# EAGLE library part STM32G031 (library ICs)
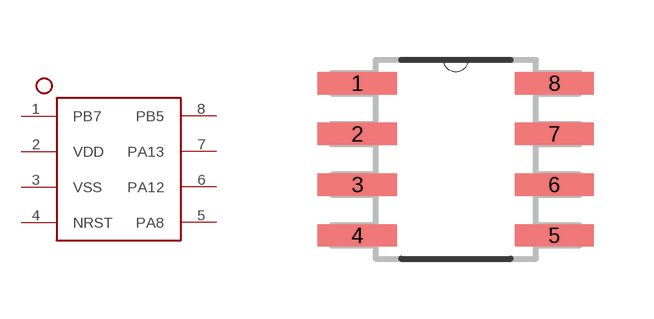
[diagram p22: symbol with the pads of SOIC127P600X175-8N; footprint SOIC127P600X175-8N]

Designator prefix -

## STM32G031S08N  [SOIC127P600X175-8N]
1  PB7
2  VDD  pwr
3  VSS  pwr
4  NRST
5  PA8
6  PA12
7  PA13
8  PB5

## Footprint SOIC127P600X175-8N (pad centres in mm)
smd 1.981 x 0.559: 1 -2.464,1.905; 2 -2.464,0.635; 3 -2.464,-0.635; 4 -2.464,-1.905; 5 2.464,-1.905; 6 2.464,-0.635; 7 2.464,0.635; 8 2.464,1.905